# EAGLE library part CON-INVERTER (library MAX9812)
Molex Miniatur connectors
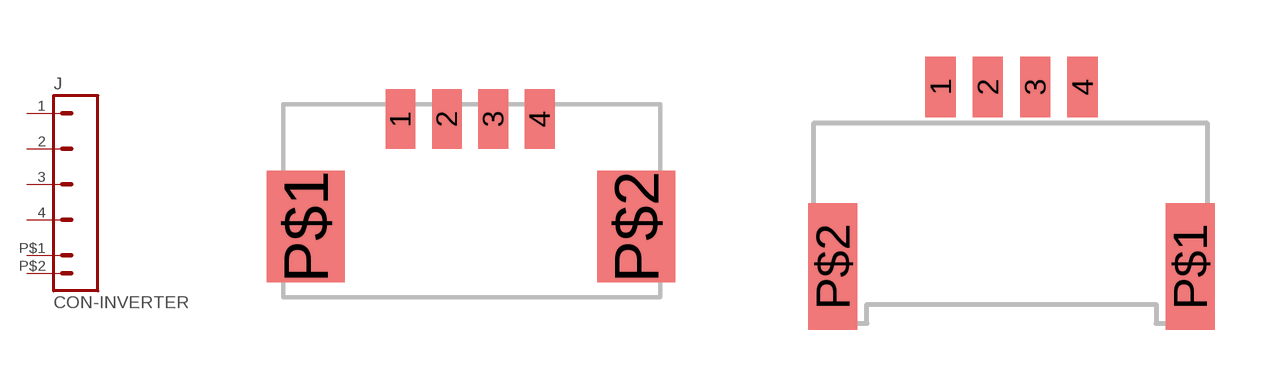
[diagram p133: symbol with the pads of 53251-0471; footprints 53251-0471, 53780-0470]

Designator prefix J

## CON-INVERTER-1  [53251-0471]
1  1  pas
2  2  pas
3  3  pas
4  4  pas
P$1  SHIELD  pas
P$2  SHIELD  pas

## CON-INVERTER-2  [53780-0470]
Pads as for 53251-0471

## Footprint 53251-0471 (pad centres in mm)
Molex Micro-Miniature 1.25mm Connectors
smd 0.8 x 1.6: 1 3.6,4.4; 2 4.85,4.4; 3 6.1,4.4; 4 7.35,4.4
smd 2.1 x 3: P$1 1.05,1.5; P$2 9.95,1.5

## Footprint 53780-0470 (pad centres in mm)
Molex Panel Mate 1.25mm Connectors Ultra Low Profile 53780-0470
smd 0.8 x 1.6: 1 -1.9,6.45; 2 -0.65,6.45; 3 0.6,6.45; 4 1.85,6.45
smd 1.3 x 3.35: P$1 4.7,1.7; P$2 -4.75,1.7